# EAGLE library part AMPHENOL_1013279X_30PIN (library jack_connector)
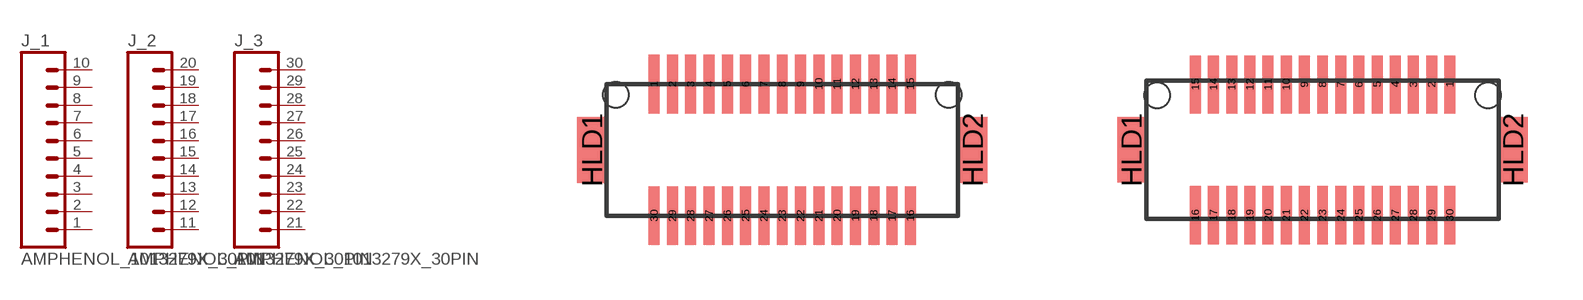
[diagram p4: symbol with the pads of AMPHENOL_10132798-03X100LF; footprints AMPHENOL_10132798-03X100LF, AMPHENOL_10132797-03X100LF]

Designator prefix J; gates _1=M10 _2=M10 _3=M10

## AMPHENOL_1013279X_30PIN_MALE  [AMPHENOL_10132798-03X100LF]
1  _1:1  pas
2  _1:2  pas
3  _1:3  pas
4  _1:4  pas
5  _1:5  pas
6  _1:6  pas
7  _1:7  pas
8  _1:8  pas
9  _1:9  pas
10  _1:10  pas
11  _2:1  pas
12  _2:2  pas
13  _2:3  pas
14  _2:4  pas
15  _2:5  pas
16  _2:6  pas
17  _2:7  pas
18  _2:8  pas
19  _2:9  pas
20  _2:10  pas
21  _3:1  pas
22  _3:2  pas
23  _3:3  pas
24  _3:4  pas
25  _3:5  pas
26  _3:6  pas
27  _3:7  pas
28  _3:8  pas
29  _3:9  pas
30  _3:10  pas

## AMPHENOL_1013279X_30PIN_FEMALE  [AMPHENOL_10132797-03X100LF]
Pads as for AMPHENOL_10132798-03X100LF

## Footprint AMPHENOL_10132798-03X100LF (pad centres in mm)
Male/Receptical side 30 pin two row SMD mezzamine connector https://cdn.amphenol-icc.com/media/wysiwyg/files/drawing/10132797.pdf
smd 0.3 x 1.6: 1 -3.5,1.8; 2 -3,1.8; 3 -2.5,1.8; 4 -2,1.8; 5 -1.5,1.8; 6 -1,1.8; 7 -0.5,1.8; 8 0,1.8; 9 0.5,1.8; 10 1,1.8; 11 1.5,1.8; 12 2,1.8; 13 2.5,1.8; 14 3,1.8; 15 3.5,1.8; 16 3.5,-1.8; 17 3,-1.8; 18 2.5,-1.8; 19 2,-1.8; 20 1.5,-1.8; 21 1,-1.8; 22 0.5,-1.8; 23 0,-1.8; 24 -0.5,-1.8; 25 -1,-1.8; 26 -1.5,-1.8; 27 -2,-1.8; 28 -2.5,-1.8; 29 -3,-1.8; 30 -3.5,-1.8
smd 0.8 x 1.8: HLD1 -5.2,0; HLD2 5.2,0
hole 0.7 at -4.55,1.5
hole 0.7 at 4.55,1.5

## Footprint AMPHENOL_10132797-03X100LF (pad centres in mm)
Female/Plug side 30 pin two row SMD mezzamine connector https://cdn.amphenol-icc.com/media/wysiwyg/files/drawing/10132797.pdf
smd 0.3 x 1.6: 1 3.5,1.8; 2 3,1.8; 3 2.5,1.8; 4 2,1.8; 5 1.5,1.8; 6 1,1.8; 7 0.5,1.8; 8 0,1.8; 9 -0.5,1.8; 10 -1,1.8; 11 -1.5,1.8; 12 -2,1.8; 13 -2.5,1.8; 14 -3,1.8; 15 -3.5,1.8; 16 -3.5,-1.8; 17 -3,-1.8; 18 -2.5,-1.8; 19 -2,-1.8; 20 -1.5,-1.8; 21 -1,-1.8; 22 -0.5,-1.8; 23 0,-1.8; 24 0.5,-1.8; 25 1,-1.8; 26 1.5,-1.8; 27 2,-1.8; 28 2.5,-1.8; 29 3,-1.8; 30 3.5,-1.8
smd 0.8 x 1.8: HLD1 -5.25,0; HLD2 5.25,0
hole 0.7 at -4.55,1.5
hole 0.7 at 4.55,1.5